# EAGLE library part MT2503 (library Deegou_IC)
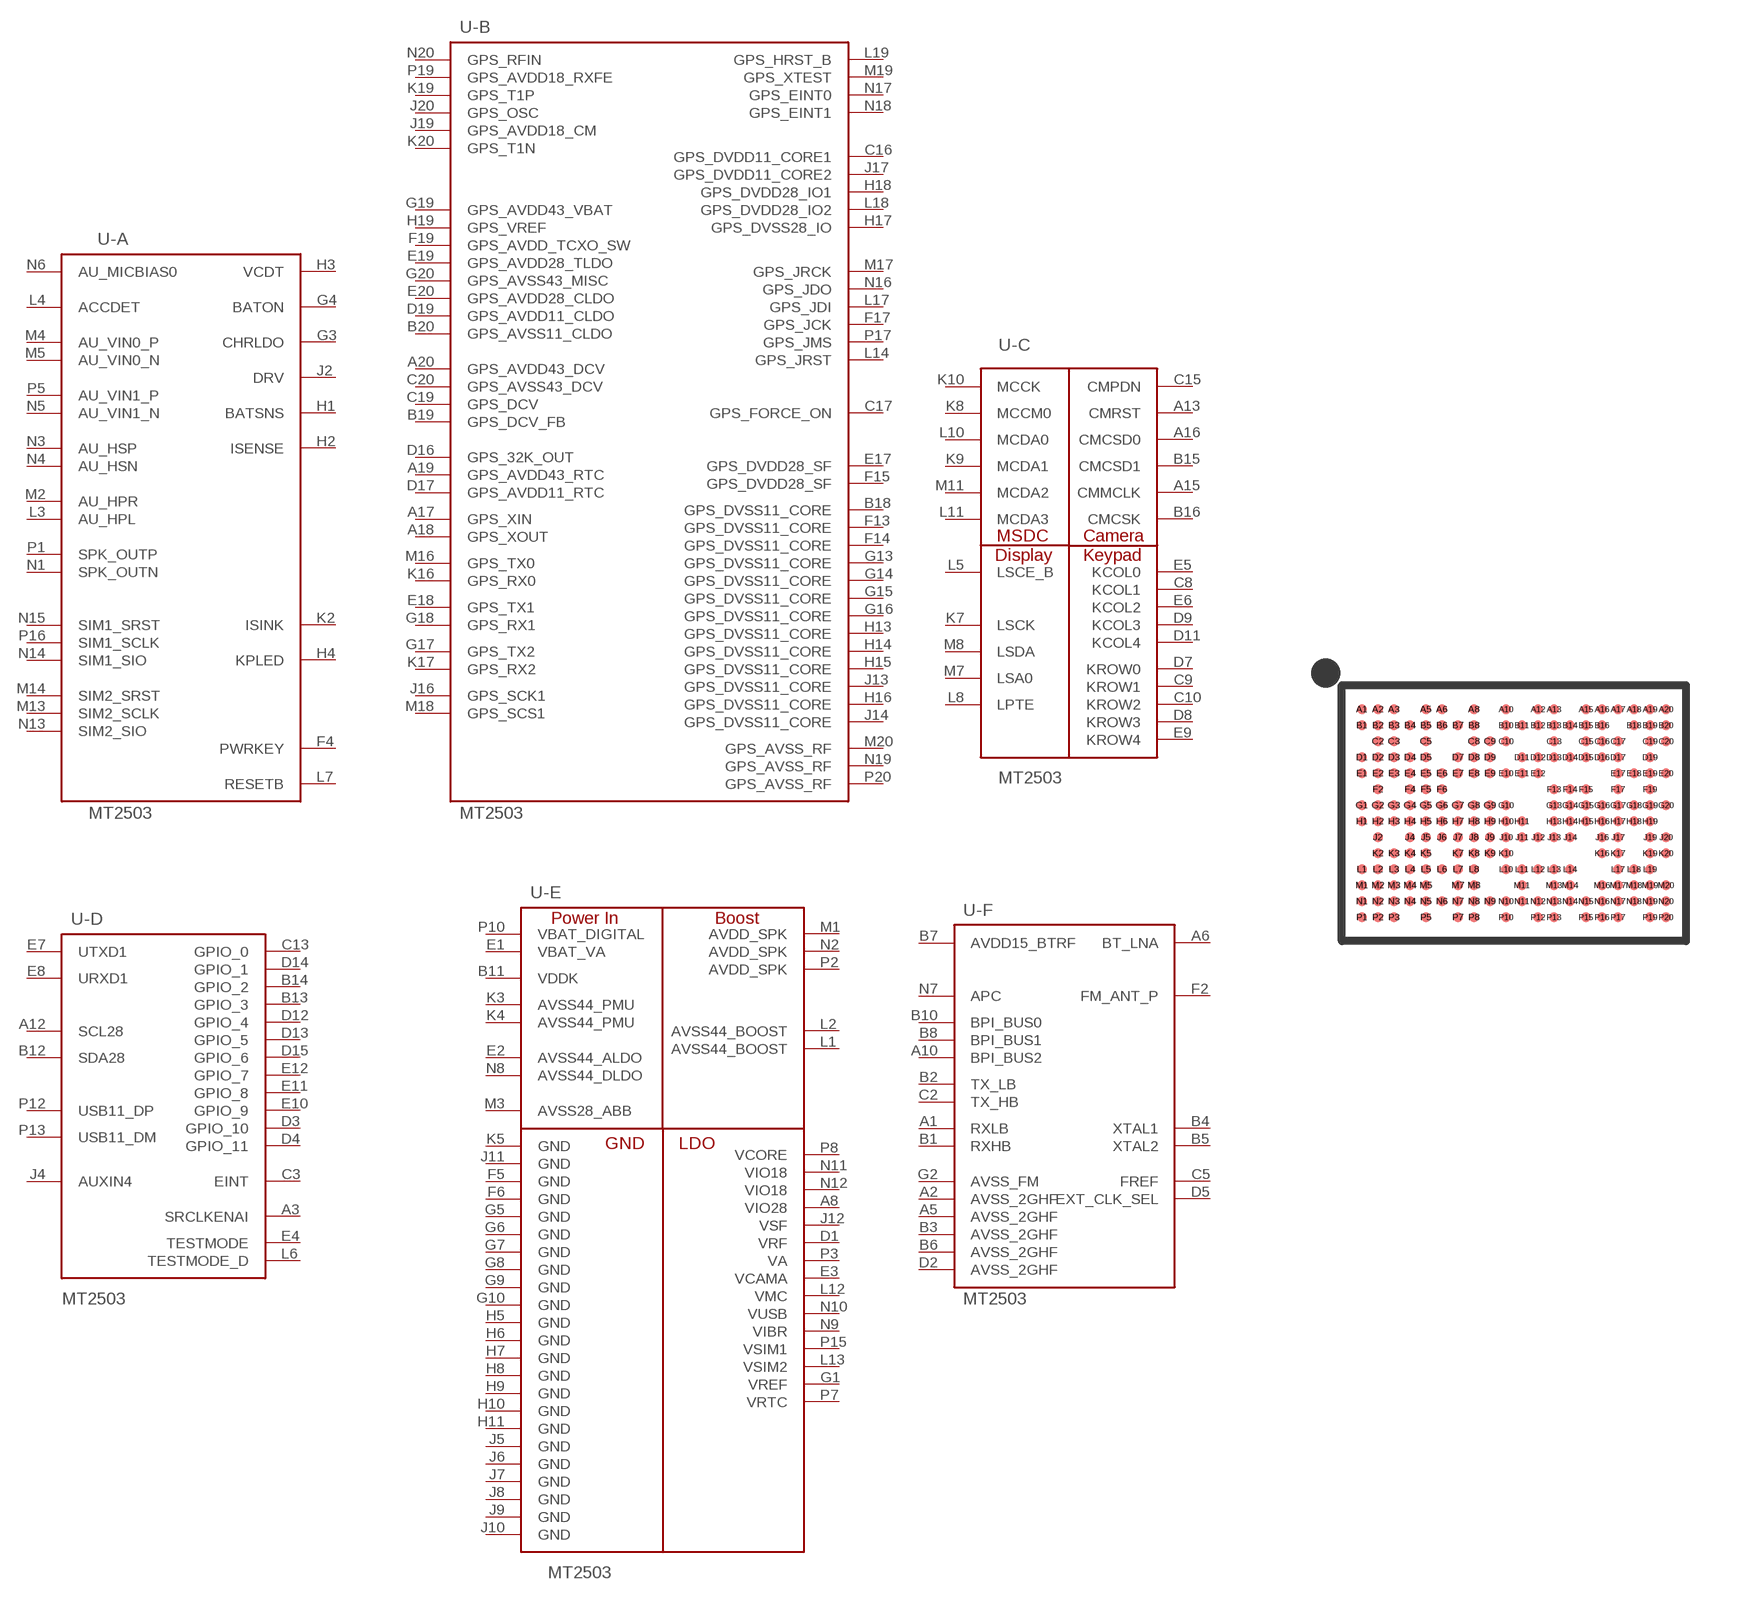
[diagram p162: symbol with the pads of MT2503; footprint MT2503]

Designator prefix U; gates -A=MT2503-A -B=MT2503-GPS -C=MT2503-INTERFACE -D=MT2503-PERIPHERAL -E=MT2503-POWER -F=MT2503-RF

## MT2503  [MT2503]
A1  -F:RXLB
A2  -F:AVSS_2GHF
A3  -D:SRCLKENAI
A5  -F:AVSS_2GHF
A6  -F:BT_LNA
A8  -E:VIO28
A10  -F:BPI_BUS2
A12  -D:SCL28
A13  -C:CMRST
A15  -C:CMMCLK
A16  -C:CMCSD0
A17  -B:GPS_XIN
A18  -B:GPS_XOUT
A19  -B:GPS_AVDD43_RTC
A20  -B:GPS_AVDD43_DCV
B1  -F:RXHB
B2  -F:TX_LB
B3  -F:AVSS_2GHF
B4  -F:XTAL1
B5  -F:XTAL2
B6  -F:AVSS_2GHF
B7  -F:AVDD15_BTRF
B8  -F:BPI_BUS1
B10  -F:BPI_BUS0
B11  -E:VDDK
B12  -D:SDA28
B13  -D:GPIO_3
B14  -D:GPIO_2
B15  -C:CMCSD1
B16  -C:CMCSK
B18  -B:GPS_DVSS11_CORE
B19  -B:GPS_DCV_FB
B20  -B:GPS_AVSS11_CLDO
C2  -F:TX_HB
C3  -D:EINT
C5  -F:FREF
C8  -C:KCOL1
C9  -C:KROW1
C10  -C:KROW2
C13  -D:GPIO_0
C15  -C:CMPDN
C16  -B:GPS_DVDD11_CORE1
C17  -B:GPS_FORCE_ON
C19  -B:GPS_DCV
C20  -B:GPS_AVSS43_DCV
D1  -E:VRF
D2  -F:AVSS_2GHF
D3  -D:GPIO_10
D4  -D:GPIO_11
D5  -F:EXT_CLK_SEL
D7  -C:KROW0
D8  -C:KROW3
D9  -C:KCOL3
D11  -C:KCOL4
D12  -D:GPIO_4
D13  -D:GPIO_5
D14  -D:GPIO_1
D15  -D:GPIO_6
D16  -B:GPS_32K_OUT
D17  -B:GPS_AVDD11_RTC
D19  -B:GPS_AVDD11_CLDO
E1  -E:VBAT_VA
E2  -E:AVSS44_ALDO
E3  -E:VCAMA
E4  -D:TESTMODE
E5  -C:KCOL0
E6  -C:KCOL2
E7  -D:UTXD1
E8  -D:URXD1
E9  -C:KROW4
E10  -D:GPIO_9
E11  -D:GPIO_8
E12  -D:GPIO_7
E17  -B:GPS_DVDD28_SF
E18  -B:GPS_TX1
E19  -B:GPS_AVDD28_TLDO
E20  -B:GPS_AVDD28_CLDO
F2  -F:FM_ANT_P
F4  -A:PWRKEY
F5  -E:GND
F6  -E:GND
F13  -B:GPS_DVSS11_CORE
F14  -B:GPS_DVSS11_CORE
F15  -B:GPS_DVDD28_SF
F17  -B:GPS_JCK
F19  -B:GPS_AVDD_TCXO_SW
G1  -E:VREF
G2  -F:AVSS_FM
G3  -A:CHRLDO
G4  -A:BATON
G5  -E:GND
G6  -E:GND
G7  -E:GND
G8  -E:GND
G9  -E:GND
G10  -E:GND
G13  -B:GPS_DVSS11_CORE
G14  -B:GPS_DVSS11_CORE
G15  -B:GPS_DVSS11_CORE
G16  -B:GPS_DVSS11_CORE
G17  -B:GPS_TX2
G18  -B:GPS_RX1
G19  -B:GPS_AVDD43_VBAT
G20  -B:GPS_AVSS43_MISC
H1  -A:BATSNS
H2  -A:ISENSE
H3  -A:VCDT
H4  -A:KPLED
H5  -E:GND
H6  -E:GND
H7  -E:GND
H8  -E:GND
H9  -E:GND
H10  -E:GND
H11  -E:GND
H13  -B:GPS_DVSS11_CORE
H14  -B:GPS_DVSS11_CORE
H15  -B:GPS_DVSS11_CORE
H16  -B:GPS_DVSS11_CORE
H17  -B:GPS_DVSS28_IO
H18  -B:GPS_DVDD28_IO1
H19  -B:GPS_VREF
J2  -A:DRV
J4  -D:AUXIN4
J5  -E:GND
J6  -E:GND
J7  -E:GND
J8  -E:GND
J9  -E:GND
J10  -E:GND
J11  -E:GND
J12  -E:VSF
J13  -B:GPS_DVSS11_CORE
J14  -B:GPS_DVSS11_CORE
J16  -B:GPS_SCK1
J17  -B:GPS_DVDD11_CORE2
J19  -B:GPS_AVDD18_CM
J20  -B:GPS_OSC
K2  -A:ISINK
K3  -E:AVSS44_PMU
K4  -E:AVSS44_PMU
K5  -E:GND
K7  -C:LSCK
K8  -C:MCCM0
K9  -C:MCDA1
K10  -C:MCCK
K16  -B:GPS_RX0
K17  -B:GPS_RX2
K19  -B:GPS_T1P
K20  -B:GPS_T1N
L1  -E:AVSS44_BOOST
L2  -E:AVSS44_BOOST
L3  -A:AU_HPL
L4  -A:ACCDET
L5  -C:LSCE_B
L6  -D:TESTMODE_D
L7  -A:RESETB
L8  -C:LPTE
L10  -C:MCDA0
L11  -C:MCDA3
L12  -E:VMC
L13  -E:VSIM2
L14  -B:GPS_JRST
L17  -B:GPS_JDI
L18  -B:GPS_DVDD28_IO2
L19  -B:GPS_HRST_B
M1  -E:AVDD_SPK
M2  -A:AU_HPR
M3  -E:AVSS28_ABB
M4  -A:AU_VIN0_P
M5  -A:AU_VIN0_N
M7  -C:LSA0
M8  -C:LSDA
M11  -C:MCDA2
M13  -A:SIM2_SCLK
M14  -A:SIM2_SRST
M16  -B:GPS_TX0
M17  -B:GPS_JRCK
M18  -B:GPS_SCS1
M19  -B:GPS_XTEST
M20  -B:GPS_AVSS_RF
N1  -A:SPK_OUTN
N2  -E:AVDD_SPK
N3  -A:AU_HSP
N4  -A:AU_HSN
N5  -A:AU_VIN1_N
N6  -A:AU_MICBIAS0
N7  -F:APC
N8  -E:AVSS44_DLDO
N9  -E:VIBR
N10  -E:VUSB
N11  -E:VIO18
N12  -E:VIO18
N13  -A:SIM2_SIO
N14  -A:SIM1_SIO
N15  -A:SIM1_SRST
N16  -B:GPS_JDO
N17  -B:GPS_EINT0
N18  -B:GPS_EINT1
N19  -B:GPS_AVSS_RF
N20  -B:GPS_RFIN
P1  -A:SPK_OUTP
P2  -E:AVDD_SPK
P3  -E:VA
P5  -A:AU_VIN1_P
P7  -E:VRTC
P8  -E:VCORE
P10  -E:VBAT_DIGITAL
P12  -D:USB11_DP
P13  -D:USB11_DM
P15  -E:VSIM1
P16  -A:SIM1_SCLK
P17  -B:GPS_JMS
P19  -B:GPS_AVDD18_RXFE
P20  -B:GPS_AVSS_RF

## Footprint MT2503 (pad centres in mm)
smd 0.25 x 0.25: A1 -3.8,2.6; A2 -3.4,2.6; A3 -3,2.6; A5 -2.2,2.6; A6 -1.8,2.6; A8 -1,2.6; A10 -0.2,2.6; A12 0.6,2.6; A13 1,2.6; A15 1.8,2.6; A16 2.2,2.6; A17 2.6,2.6; A18 3,2.6; A19 3.4,2.6; A20 3.8,2.6; B1 -3.8,2.2; B2 -3.4,2.2; B3 -3,2.2; B4 -2.6,2.2; B5 -2.2,2.2; B6 -1.8,2.2; B7 -1.4,2.2; B8 -1,2.2; B10 -0.2,2.2; B11 0.2,2.2; B12 0.6,2.2; B13 1,2.2; B14 1.4,2.2; B15 1.8,2.2; B16 2.2,2.2; B18 3,2.2; B19 3.4,2.2; B20 3.8,2.2; C2 -3.4,1.8; C3 -3,1.8; C5 -2.2,1.8; C8 -1,1.8; C9 -0.6,1.8; C10 -0.2,1.8; C13 1,1.8; C15 1.8,1.8; C16 2.2,1.8; C17 2.6,1.8; C19 3.4,1.8; C20 3.8,1.8; D1 -3.8,1.4; D2 -3.4,1.4; D3 -3,1.4; D4 -2.6,1.4; D5 -2.2,1.4; D7 -1.4,1.4; D8 -1,1.4; D9 -0.6,1.4; D11 0.2,1.4; D12 0.6,1.4; D13 1,1.4; D14 1.4,1.4; D15 1.8,1.4; D16 2.2,1.4; D17 2.6,1.4; D19 3.4,1.4; E1 -3.8,1; E2 -3.4,1; E3 -3,1; E4 -2.6,1; E5 -2.2,1; E6 -1.8,1; E7 -1.4,1; E8 -1,1; E9 -0.6,1; E10 -0.2,1; E11 0.2,1; E12 0.6,1; E17 2.6,1; E18 3,1; E19 3.4,1; E20 3.8,1; F2 -3.4,0.6; F4 -2.6,0.6; F5 -2.2,0.6; F6 -1.8,0.6; F13 1,0.6; F14 1.4,0.6; F15 1.8,0.6; F17 2.6,0.6; F19 3.4,0.6; G1 -3.8,0.2; G2 -3.4,0.2; G3 -3,0.2; G4 -2.6,0.2; G5 -2.2,0.2; G6 -1.8,0.2; G7 -1.4,0.2; G8 -1,0.2; G9 -0.6,0.2; G10 -0.2,0.2; G13 1,0.2; G14 1.4,0.2; G15 1.8,0.2; G16 2.2,0.2; G17 2.6,0.2; G18 3,0.2; G19 3.4,0.2; G20 3.8,0.2; H1 -3.8,-0.2; H2 -3.4,-0.2; H3 -3,-0.2; H4 -2.6,-0.2; H5 -2.2,-0.2; H6 -1.8,-0.2; H7 -1.4,-0.2; H8 -1,-0.2; H9 -0.6,-0.2; H10 -0.2,-0.2; H11 0.2,-0.2; H13 1,-0.2; H14 1.4,-0.2; H15 1.8,-0.2; H16 2.2,-0.2; H17 2.6,-0.2; H18 3,-0.2; H19 3.4,-0.2; J2 -3.4,-0.6; J4 -2.6,-0.6; J5 -2.2,-0.6; J6 -1.8,-0.6; J7 -1.4,-0.6; J8 -1,-0.6; J9 -0.6,-0.6; J10 -0.2,-0.6; J11 0.2,-0.6; J12 0.6,-0.6; J13 1,-0.6; J14 1.4,-0.6; J16 2.2,-0.6; J17 2.6,-0.6; J19 3.4,-0.6; J20 3.8,-0.6; K2 -3.4,-1; K3 -3,-1; K4 -2.6,-1; K5 -2.2,-1; K7 -1.4,-1; K8 -1,-1; K9 -0.6,-1; K10 -0.2,-1; K16 2.2,-1; K17 2.6,-1; K19 3.4,-1; K20 3.8,-1; L1 -3.8,-1.4; L2 -3.4,-1.4; L3 -3,-1.4; L4 -2.6,-1.4; L5 -2.2,-1.4; L6 -1.8,-1.4; L7 -1.4,-1.4; L8 -1,-1.4; L10 -0.2,-1.4; L11 0.2,-1.4; L12 0.6,-1.4; L13 1,-1.4; L14 1.4,-1.4; L17 2.6,-1.4; L18 3,-1.4; L19 3.4,-1.4; M1 -3.8,-1.8; M2 -3.4,-1.8; M3 -3,-1.8; M4 -2.6,-1.8; M5 -2.2,-1.8; M7 -1.4,-1.8; M8 -1,-1.8; M11 0.2,-1.8; M13 1,-1.8; M14 1.4,-1.8; M16 2.2,-1.8; M17 2.6,-1.8; M18 3,-1.8; M19 3.4,-1.8; M20 3.8,-1.8; N1 -3.8,-2.2; N2 -3.4,-2.2; N3 -3,-2.2; N4 -2.6,-2.2; N5 -2.2,-2.2; N6 -1.8,-2.2; N7 -1.4,-2.2; N8 -1,-2.2; N9 -0.6,-2.2; N10 -0.2,-2.2; N11 0.2,-2.2; N12 0.6,-2.2; N13 1,-2.2; N14 1.4,-2.2; N15 1.8,-2.2; N16 2.2,-2.2; N17 2.6,-2.2; N18 3,-2.2; N19 3.4,-2.2; N20 3.8,-2.2; P1 -3.8,-2.6; P2 -3.4,-2.6; P3 -3,-2.6; P5 -2.2,-2.6; P7 -1.4,-2.6; P8 -1,-2.6; P10 -0.2,-2.6; P12 0.6,-2.6; P13 1,-2.6; P15 1.8,-2.6; P16 2.2,-2.6; P17 2.6,-2.6; P19 3.4,-2.6; P20 3.8,-2.6